# EAGLE library part SIOAUX (library pbxl)
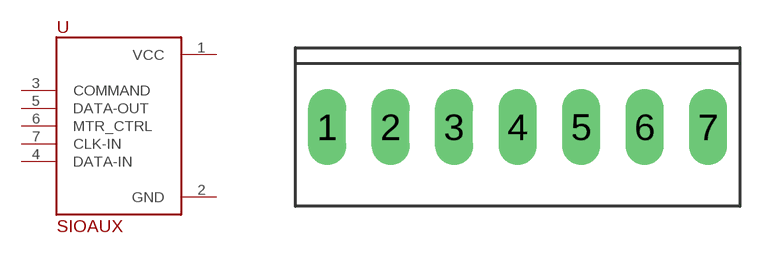
[diagram p2: symbol with the pads of 1X07; footprint 1X07]

Designator prefix -

## SIOAUX  [1X07]
1  VCC
2  GND
3  COMMAND
4  DATA-IN
5  DATA-OUT
6  MTR_CTRL
7  CLK-IN

## Footprint 1X07 (pad centres in mm)
PIN HEADER
drill 1.016 long: 1 -7.62,0; 2 -5.08,0; 3 -2.54,0; 4 0,0; 5 2.54,0; 6 5.08,0; 7 7.62,0